# Altium footprint library Conn_Molex_22-27-2041_eec_0.PcbLib: 1 footprints
Each footprint in its own frame and in the unit in brackets; x right, y up, seen from the top. Pads: shape width x height; smd on the part's side, far side on the other; paste and mask are expansions set on the pad; w line width, h text height; cw(c..) or ccw(c..) is an arc to the next point about the centre after c.
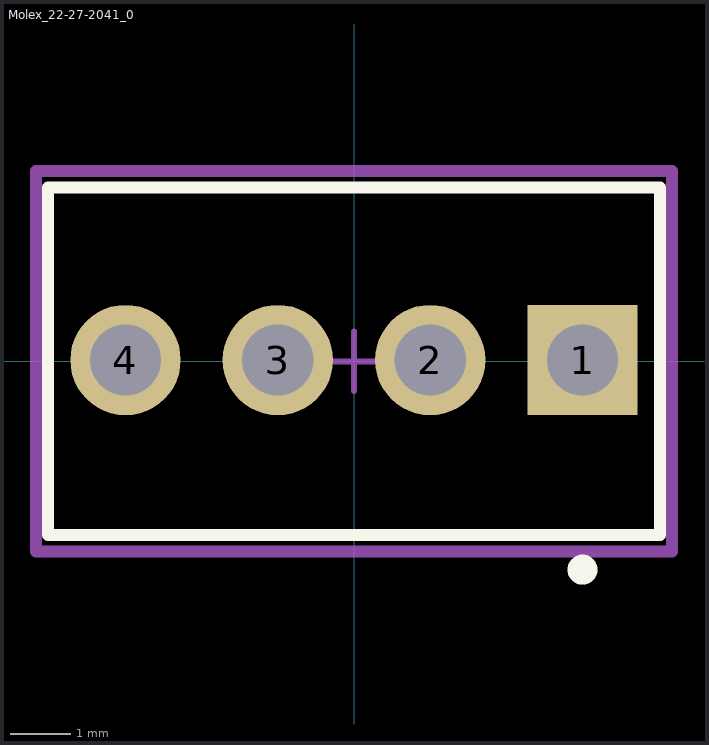
[diagram p0: the footprint, top view; thin cyan lines are the x and y axes]

## Molex_22-27-2041_0 [mm]
pads (4):
  rect 1.84x1.84 hole 1.19 paste-1000 mask+0: 1(3.81,0.02)
  round 1.84 hole 1.19 paste-1000 mask+0: 2(1.27,0.02) 3(-1.27,0.02) 4(-3.81,0.02)
Top Overlay:
  circle w0.25: c3.81,-3.475 r0.125
  lines w0.2: -5.105,-2.9 5.105,-2.9 5.105,2.9 -5.105,2.9 -5.105,-2.9
Mechanical 10:
  lines w0.2: -5.305,-3.175 5.305,-3.175 5.305,3.175 -5.305,3.175 -5.305,-3.175
  text ".Designator" at 0,0 h1
Mechanical 12:
  lines w0.15: -5.08,-2.9 5.08,-2.9 5.08,2.9 -5.08,2.9 -5.08,-2.9
Mechanical 15:
  lines w0.1: -0.5,0 0.5,0 ; 0,-0.5 0,0.5
  lines w0.2: -5.305,-3.175 5.305,-3.175 5.305,3.175 -5.305,3.175 -5.305,-3.175
3D body "Conn_Molex_22-27-2041_eec.STEP": height 0.25, standoff 0, extent -5.305,-3.175 5.305,3.175